# EAGLE library part VIC20_EXPANSIONPORT-EDGE (library commodore)
Expansionport of the Commodore VIC-20
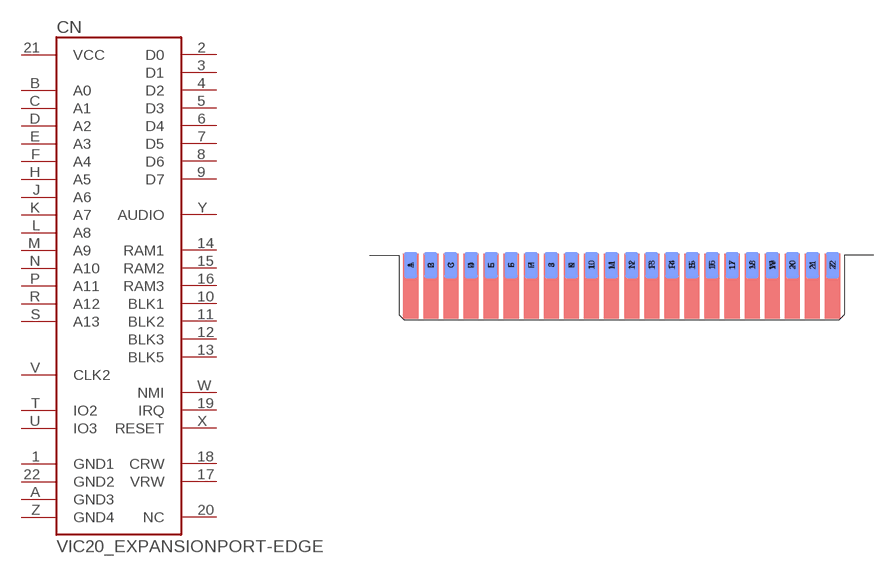
[diagram p30: symbol with the pads of UPS44EDGE; footprint UPS44EDGE]

Designator prefix CN

## VIC20_EXPANSIONPORT-EDGE  [UPS44EDGE]
1  GND1  pas
2  D0
3  D1
4  D2
5  D3
6  D4
7  D5
8  D6
9  D7
10  BLK1  out
11  BLK2  out
12  BLK3  out
13  BLK5  out
14  RAM1  out
15  RAM2  out
16  RAM3  out
17  VRW  out
18  CRW  out
19  IRQ
20  NC  pas
21  VCC  pas
22  GND2  pas
A  GND3  pas
B  A0  out
C  A1  out
D  A2  out
E  A3  out
F  A4  out
H  A5  out
J  A6  out
K  A7  out
L  A8  out
M  A9  out
N  A10  out
P  A11  out
R  A12  out
S  A13  out
T  IO2  out
U  IO3  out
V  CLK2  out
W  NMI
X  RESET
Y  AUDIO  pas
Z  GND4  pas

## Footprint UPS44EDGE (pad centres in mm)
smd 2.54 x 5.08: 1 -41.579,3.68; 2 -37.619,3.68; 3 -33.659,3.68; 4 -29.699,3.68; 5 -25.739,3.68; 6 -21.779,3.68; 7 -17.819,3.68; 8 -13.859,3.68; 9 -9.899,3.68; 10 -5.939,3.68; 11 -1.979,3.68; 12 1.981,3.68; 13 5.941,3.68; 14 9.901,3.68; 15 13.861,3.68; 16 17.821,3.68; 17 21.781,3.68; 18 25.741,3.68; 19 29.701,3.68; 20 33.661,3.68; 21 37.621,3.68; 22 41.581,3.68
smd 2.54 x 5.08 bottom: A -41.579,3.68; B -37.619,3.68; C -33.659,3.68; D -29.699,3.68; E -25.739,3.68; F -21.779,3.68; H -17.819,3.68; J -13.859,3.68; K -9.899,3.68; L -5.939,3.68; M -1.979,3.68; N 1.981,3.68; P 5.941,3.68; R 9.901,3.68; S 13.861,3.68; T 17.821,3.68; U 21.781,3.68; V 25.741,3.68; W 29.701,3.68; X 33.661,3.68; Y 37.621,3.68; Z 41.581,3.68